# EAGLE library part STM32F427VIT6 (library KVB-MCUs)
ARM® Cortex®-M4 STM32F4 Microcontroller IC 32-Bit 180MHz 2MB (2M x 8) FLASH 100-LQFP (14x14)
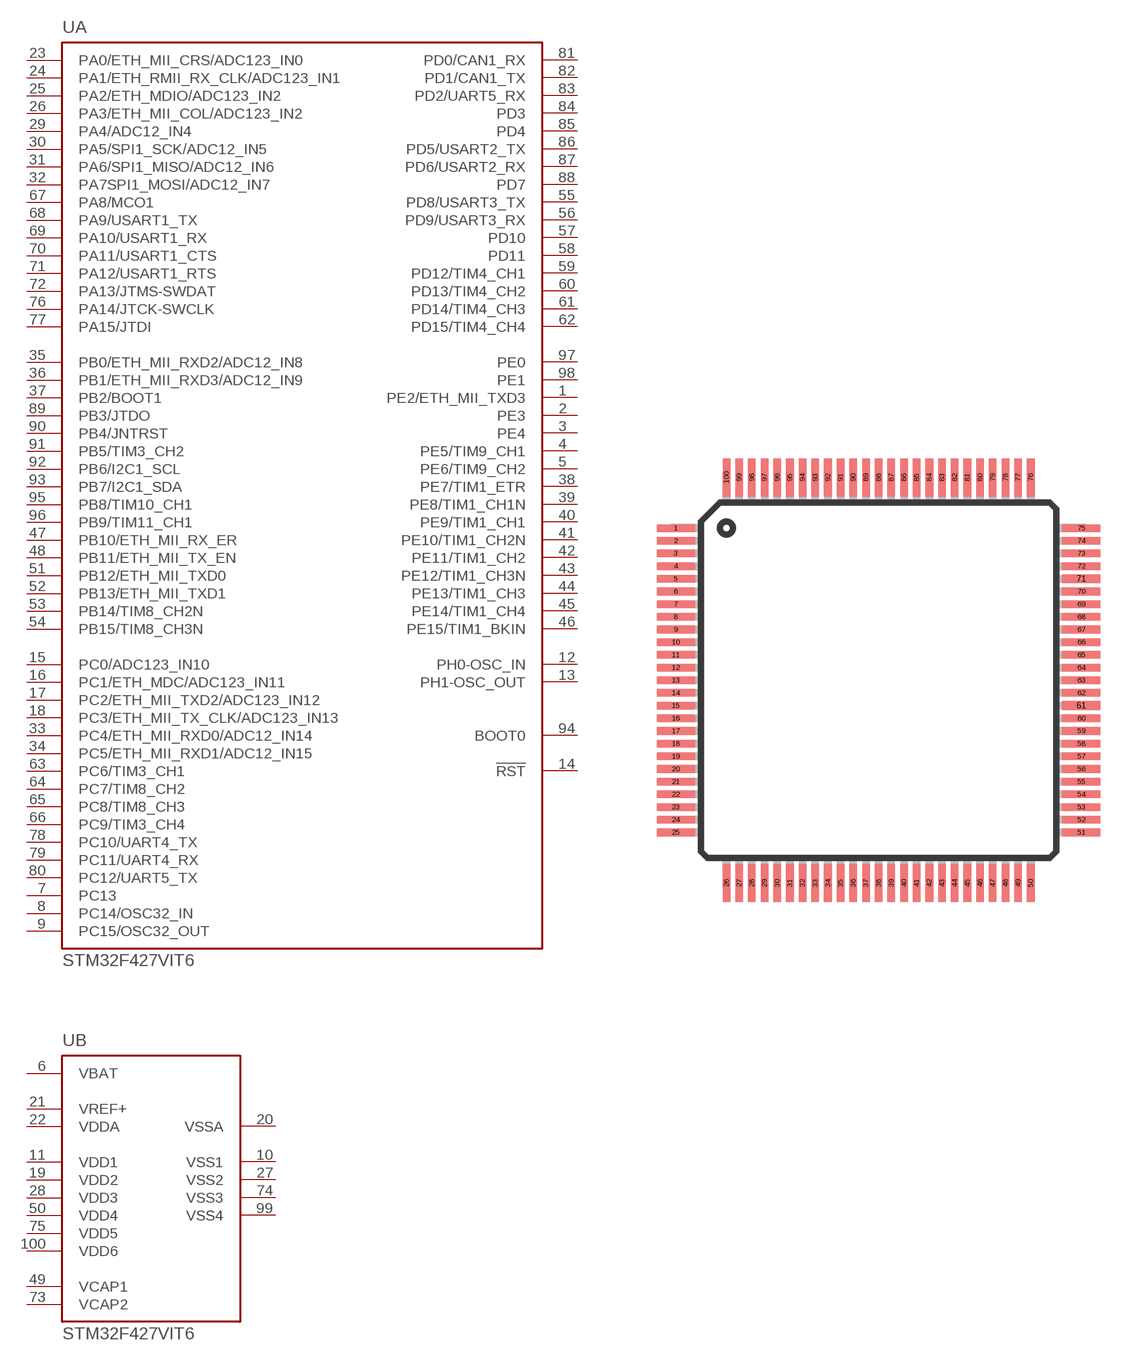
[diagram p6: symbol with the pads of LQFP100; footprint LQFP100]

Designator prefix U; gates A=STM32F427VIT6-A B=STM32F427VIT6-B

## STM32F427VIT6 (MAN-PART_NUM: STM32F427VIT6; MANUFACTURER: STMicroelectronics)  [LQFP100]
1  A:PE2/ETH_MII_TXD3
2  A:PE3
3  A:PE4
4  A:PE5/TIM9_CH1
5  A:PE6/TIM9_CH2
6  B:VBAT
7  A:PC13
8  A:PC14/OSC32_IN
9  A:PC15/OSC32_OUT
10  B:VSS1
11  B:VDD1
12  A:PH0-OSC_IN
13  A:PH1-OSC_OUT
14  A:!RST
15  A:PC0/ADC123_IN10
16  A:PC1/ETH_MDC/ADC123_IN11
17  A:PC2/ETH_MII_TXD2/ADC123_IN12
18  A:PC3/ETH_MII_TX_CLK/ADC123_IN13
19  B:VDD2
20  B:VSSA
21  B:VREF+
22  B:VDDA
23  A:PA0/ETH_MII_CRS/ADC123_IN0
24  A:PA1/ETH_RMII_RX_CLK/ADC123_IN1
25  A:PA2/ETH_MDIO/ADC123_IN2
26  A:PA3/ETH_MII_COL/ADC123_IN2
27  B:VSS2
28  B:VDD3
29  A:PA4/ADC12_IN4
30  A:PA5/SPI1_SCK/ADC12_IN5
31  A:PA6/SPI1_MISO/ADC12_IN6
32  A:PA7SPI1_MOSI/ADC12_IN7
33  A:PC4/ETH_MII_RXD0/ADC12_IN14
34  A:PC5/ETH_MII_RXD1/ADC12_IN15
35  A:PB0/ETH_MII_RXD2/ADC12_IN8
36  A:PB1/ETH_MII_RXD3/ADC12_IN9
37  A:PB2/BOOT1
38  A:PE7/TIM1_ETR
39  A:PE8/TIM1_CH1N
40  A:PE9/TIM1_CH1
41  A:PE10/TIM1_CH2N
42  A:PE11/TIM1_CH2
43  A:PE12/TIM1_CH3N
44  A:PE13/TIM1_CH3
45  A:PE14/TIM1_CH4
46  A:PE15/TIM1_BKIN
47  A:PB10/ETH_MII_RX_ER
48  A:PB11/ETH_MII_TX_EN
49  B:VCAP1
50  B:VDD4
51  A:PB12/ETH_MII_TXD0
52  A:PB13/ETH_MII_TXD1
53  A:PB14/TIM8_CH2N
54  A:PB15/TIM8_CH3N
55  A:PD8/USART3_TX
56  A:PD9/USART3_RX
57  A:PD10
58  A:PD11
59  A:PD12/TIM4_CH1
60  A:PD13/TIM4_CH2
61  A:PD14/TIM4_CH3
62  A:PD15/TIM4_CH4
63  A:PC6/TIM3_CH1
64  A:PC7/TIM8_CH2
65  A:PC8/TIM8_CH3
66  A:PC9/TIM3_CH4
67  A:PA8/MCO1
68  A:PA9/USART1_TX
69  A:PA10/USART1_RX
70  A:PA11/USART1_CTS
71  A:PA12/USART1_RTS
72  A:PA13/JTMS-SWDAT
73  B:VCAP2
74  B:VSS3
75  B:VDD5
76  A:PA14/JTCK-SWCLK
77  A:PA15/JTDI
78  A:PC10/UART4_TX
79  A:PC11/UART4_RX
80  A:PC12/UART5_TX
81  A:PD0/CAN1_RX
82  A:PD1/CAN1_TX
83  A:PD2/UART5_RX
84  A:PD3
85  A:PD4
86  A:PD5/USART2_TX
87  A:PD6/USART2_RX
88  A:PD7
89  A:PB3/JTDO
90  A:PB4/JNTRST
91  A:PB5/TIM3_CH2
92  A:PB6/I2C1_SCL
93  A:PB7/I2C1_SDA
94  A:BOOT0
95  A:PB8/TIM10_CH1
96  A:PB9/TIM11_CH1
97  A:PE0
98  A:PE1
99  B:VSS4
100  B:VDD6

## Footprint LQFP100 (pad centres in mm)
smd 1.5 x 0.3: 1 -8,6; 2 -8,5.5; 3 -8,5; 4 -8,4.5; 5 -8,4; 6 -8,3.5; 7 -8,3; 8 -8,2.5; 9 -8,2; 10 -8,1.5; 11 -8,1; 12 -8,0.5; 13 -8,0; 14 -8,-0.5; 15 -8,-1; 16 -8,-1.5; 17 -8,-2; 18 -8,-2.5; 19 -8,-3; 20 -8,-3.5; 21 -8,-4; 22 -8,-4.5; 23 -8,-5; 24 -8,-5.5; 25 -8,-6; 51 8,-6; 52 8,-5.5; 53 8,-5; 54 8,-4.5; 55 8,-4; 56 8,-3.5; 57 8,-3; 58 8,-2.5; 59 8,-2; 60 8,-1.5; 62 8,-0.5; 63 8,0; 64 8,0.5; 65 8,1; 66 8,1.5; 67 8,2; 68 8,2.5; 69 8,3; 70 8,3.5; 72 8,4.5; 73 8,5; 74 8,5.5; 75 8,6
smd 0.3 x 1.5: 26 -6,-8; 27 -5.5,-8; 28 -5,-8; 29 -4.5,-8; 30 -4,-8; 31 -3.5,-8; 32 -3,-8; 33 -2.5,-8; 34 -2,-8; 35 -1.5,-8; 36 -1,-8; 37 -0.5,-8; 38 0,-8; 39 0.5,-8; 40 1,-8; 41 1.5,-8; 42 2,-8; 43 2.5,-8; 44 3,-8; 45 3.5,-8; 46 4,-8; 47 4.5,-8; 48 5,-8; 49 5.5,-8; 50 6,-8; 76 6,8; 77 5.5,8; 78 5,8; 79 4.5,8; 80 4,8; 81 3.5,8; 82 3,8; 83 2.5,8; 84 2,8; 85 1.5,8; 86 1,8; 87 0.5,8; 88 0,8; 89 -0.5,8; 90 -1,8; 91 -1.5,8; 92 -2,8; 93 -2.5,8; 94 -3,8; 95 -3.5,8; 96 -4,8; 97 -4.5,8; 98 -5,8; 99 -5.5,8; 100 -6,8
smd 1.5 x 0.35: 61 8,-1; 71 8,4